# Altium schematic symbol library EMK107B7104KA-T.SchLib: 1 symbol
Pins are listed as number, name and electrical type; pins without a type are passive.

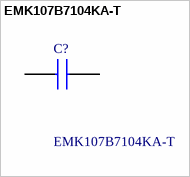
[diagram p0: symbol EMK107B7104KA-T]

## EMK107B7104KA-T
designator C?
EMK107B7104KA-T 0.1F +/-10% 16V Ceramic Capacitor X7R 0603; Manufacturer_Name: TAIYO YUDEN; Geometry.Height: 0.95mm; Manufacturer_Part_Number: EMK107B7104KA-T; Mouser Part Number: 963-EMK107B7104KA-T; Mouser Price/Stock: https://www.mouser.co.uk/ProductDetail/TAIYO-YUDEN/EMK107B7104KA-T?qs=I6KAKw0tg2ybqzX8hKPgfw%3D%3D; Arrow Part Number: EMK107B7104KA-T; Arrow Price/Stock: https://www.arrow.com/en/products/emk107b7104ka-t/taiyo-yuden; Datasheet Link: http://www.farnell.com/datasheets/746258.pdf
footprint CAPC1608X95N
pins: 1, 2